# Altium schematic symbol library ERJ-2RKF2201X.Schlib: 1 symbol
Pins are listed as number, name and electrical type; pins without a type are passive.

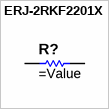
[diagram p0: symbol ERJ-2RKF2201X]

## ERJ-2RKF2201X
designator R?
RES 2.2K OHM 1/10W 1% 0402 SMD
pins: 1, 2